# Altium footprint library HPD_D_1.0.PcbLib: 33 footprints (part 1 of 3)
Each footprint in its own frame and in the unit in brackets; x right, y up, seen from the top. Pads: shape width x height; smd on the part's side, far side on the other; paste and mask are expansions set on the pad; w line width, h text height; cw(c..) or ccw(c..) is an arc to the next point about the centre after c.
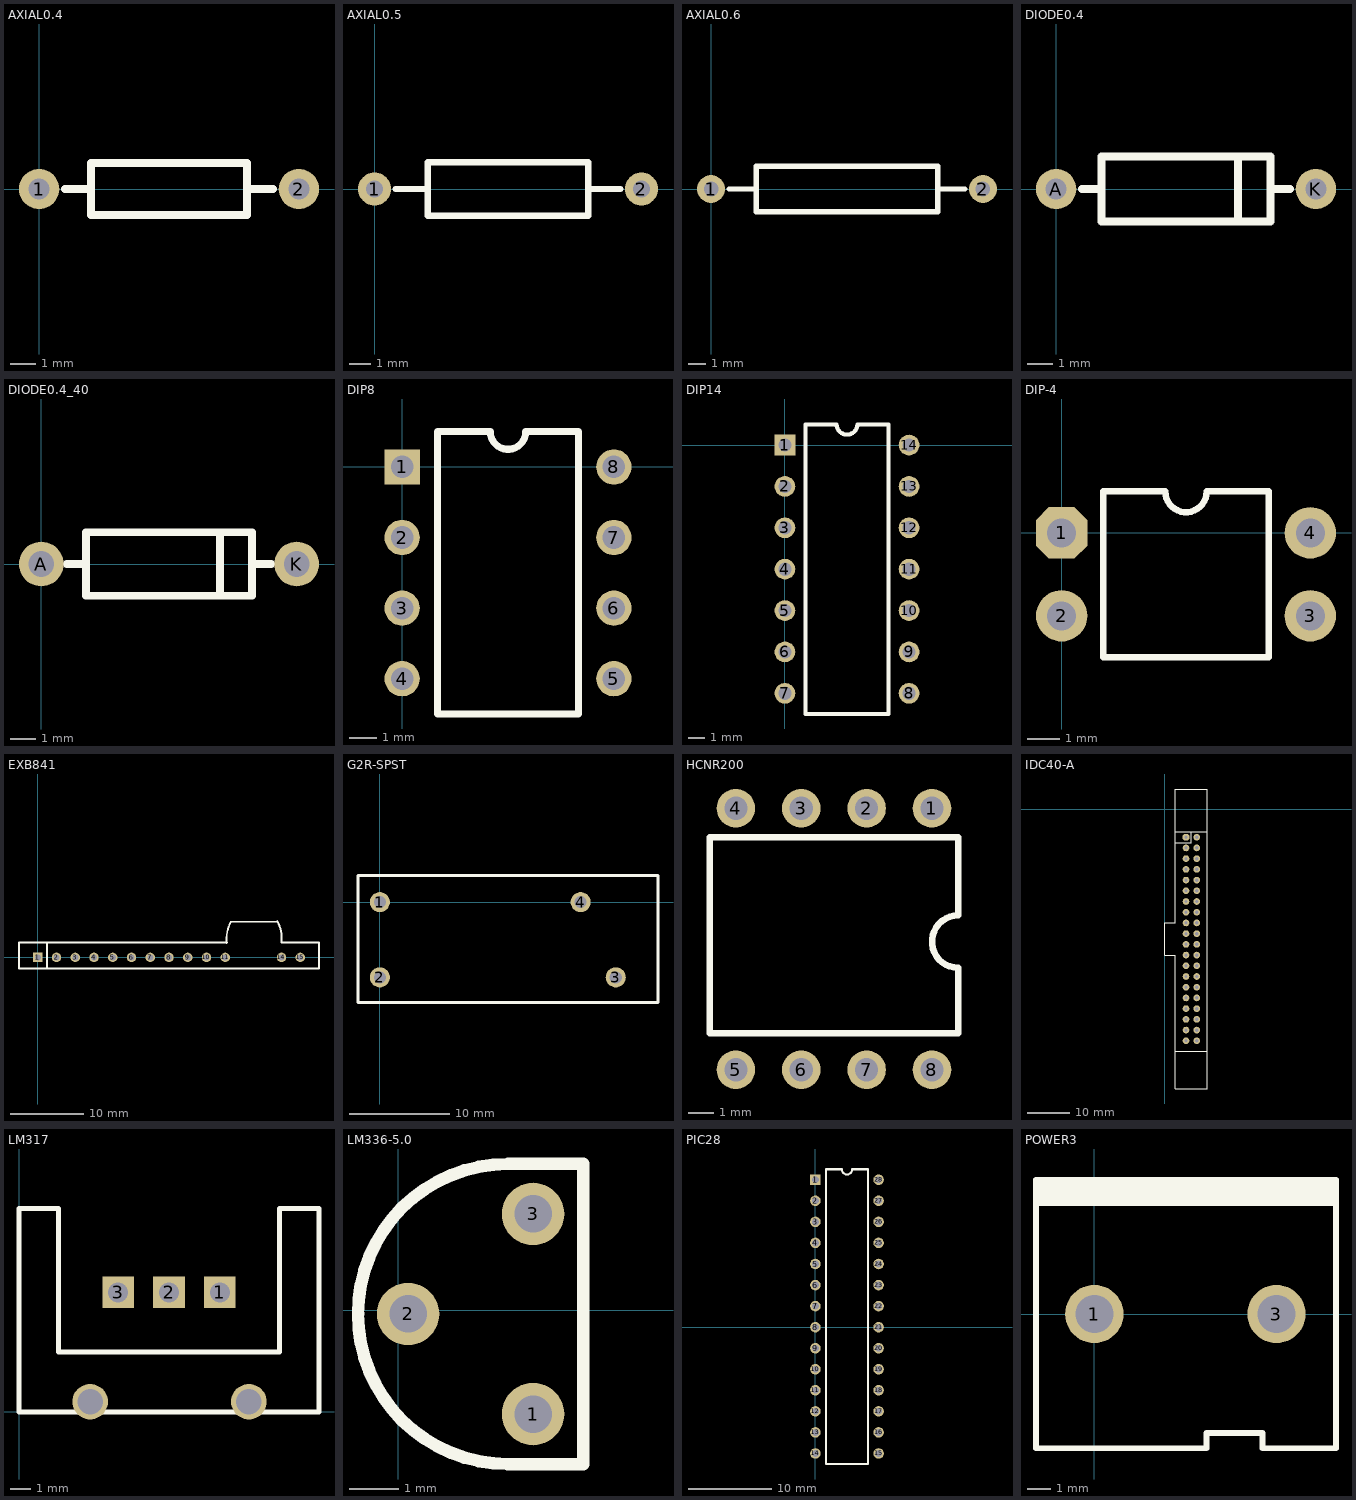
[diagram p0: the footprints below, top view; thin cyan lines are the x and y axes]

## AXIAL0.4 [mil]
pads (2):
  round 62 hole 32: 1(0,0) 2(400,0)
Top Overlay:
  lines w12: 40,0 80,0 ; 320,0 360,0 ; 80,-40 320,-40 320,40 80,40 80,-40

## AXIAL0.5 [mil]
pads (2):
  round 62 hole 32: 1(0,0) 2(500,0)
Top Overlay:
  lines w12: 40,0 100,0 ; 400,0 460,0 ; 100,-50 100,50 400,50 400,-50 100,-50

## AXIAL0.6 [mil]
pads (2):
  round 62 hole 32: 1(0,0) 2(600,0)
Top Overlay:
  lines w12: 40,0 100,0 ; 500,0 560,0 ; 100,-50 100,50 500,50 500,-50 100,-50

## DIODE0.4 [mil]
pads (2):
  round 62 hole 32: A(0,0) K(400,0)
Top Overlay:
  lines w12: 40,0 70,0 ; 280,-50 280,50 ; 330,0 360,0 ; 70,-50 330,-50 330,50 70,50 70,-50

## DIODE0.4_40 [mil]
pads (2):
  round 70 hole 40: A(0,0) K(400,0)
Top Overlay:
  lines w12: 40,0 70,0 ; 280,-50 280,50 ; 330,0 360,0 ; 70,-50 330,-50 330,50 70,50 70,-50

## DIP8 [mil]
pads (8):
  rect 50x50 hole 32: 1(0,0)
  round 50 hole 32: 2(0,-100) 3(0,-200) 4(0,-300) 5(300,-300) 6(300,-200) 7(300,-100) 8(300,0)
Top Overlay:
  lines w10: 50,-350 50,50 125,50 ccw(c150,50) 175,50 250,50 250,-350 50,-350

## DIP14 [mil]
pads (14):
  rect 50x50 hole 32: 1(0,0)
  round 50 hole 32: 2(0,-100) 3(0,-200) 4(0,-300) 5(0,-400) 6(0,-500) 7(0,-600) 8(300,-600) 9(300,-500) 10(300,-400) 11(300,-300) 12(300,-200) 13(300,-100) 14(300,0)
Top Overlay:
  lines w10: 50,-650 50,50 125,50 ccw(c150,50) 175,50 250,50 250,-650 50,-650

## DIP-4 [mil]
pads (4):
  oct 62x62 hole 35: 1(0,0)
  round 62 hole 35: 2(0,-100) 3(300,-100) 4(300,0)
Top Overlay:
  lines w7.87: 50,-150 50,50 125,50 ccw(c150,50) 175,50 250,50 250,-150 50,-150

## EXB841 [mil]
pads (13):
  rect 50x50 hole 32: 1(0,0)
  round 50 hole 32: 2(100,0) 3(200,0) 4(300,0) 5(400,0) 6(500,0) 7(600,0) 8(700,0) 9(800,0) 10(900,0) 11(1000,0) 14(1300,0) 15(1400,0)
Top Overlay:
  lines w10: 50,-60 50,80 ; 1007.64,75.95 cw(c1207.64,95.96) 1030,190 1280,190 ; 1010,80 -100,80 -100,-60 1500,-60 1500,80 1300,80 ccw(c1100,100) 1277.35,194.59

## G2R-SPST [mm]
pads (4):
  round 2 hole 1.2: 1(0,0) 2(0,-7.5) 3(23.5,-7.5) 4(20,0)
Top Overlay:
  lines w0.305: -2.181,-10.002 -2.181,2.649 27.708,2.649 27.708,-10.002 -2.181,-10.002

## HCNR200 [mm]
pads (8):
  round 1.5 hole 0.9: 1(10.668,11.786) 2(8.128,11.786) 3(5.588,11.786) 4(3.048,11.786) 5(3.048,1.626) 6(5.588,1.626) 7(8.128,1.626) 8(10.668,1.626)
Top Overlay:
  lines w0.254: 2.032,3.048 2.032,10.668 11.684,10.668 11.684,7.62 ccw(c11.684,6.604) 11.684,5.588 11.684,3.048 2.032,3.048

## IDC40-A [mil]
pads (40):
  oct 62x62 hole 32: 1(200,-260)
  round 62 hole 32: 2(300,-260) 3(200,-360) 4(300,-360) 5(200,-460) 6(300,-460) 7(200,-560) 8(300,-560) 9(200,-660) 10(300,-660) 11(200,-760) 12(300,-760) 13(200,-860) 14(300,-860) 15(200,-960) 16(300,-960) 17(200,-1060) 18(300,-1060) 19(200,-1160) 20(300,-1160) 21(200,-1260) 22(300,-1260) 23(200,-1360) 24(300,-1360) 25(200,-1460) 26(300,-1460) 27(200,-1560) 28(300,-1560) 29(200,-1660) 30(300,-1660) 31(200,-1760) 32(300,-1760) 33(200,-1860) 34(300,-1860) 35(200,-1960) 36(300,-1960) 37(200,-2060) 38(300,-2060) 39(200,-2160) 40(300,-2160)
Top Overlay:
  lines w10: 100,-2260 400,-2260 ; 100,-310 250,-310 250,-210 ; 100,-210 400,-210 ; 0,-1360 100,-1360 100,-2610 400,-2610 400,190 100,190 100,-1060 0,-1060 0,-1360

## LM317 [mil]
pads (5):
  rect 62x62 hole 39.37: 1(395,235) 2(295,235) 3(195,235)
  round 70 hole 50: ""(140,20) ""(452,20)
Top Overlay:
  lines w10: 0,0 590,0 590,400 512,400 512,118 78,118 78,400 0,400 0,0

## LM336-5.0 [mil]
pads (3):
  round 50 hole 30: 1(107.87,-82.99) 2(7.87,-2.99) 3(107.87,77.01)
Top Overlay:
  lines w10: 87.87,-122.99 cw(c87.87,-2.99) 87.87,117.01 147.87,117.01 147.87,-122.99 87.87,-122.99

## PIC28 [mil]
pads (28):
  rect 50x50 hole 32: 1(0,700)
  round 50 hole 32: 2(0,600) 3(0,500) 4(0,400) 5(0,300) 6(0,200) 7(0,100) 8(0,0) 9(0,-100) 10(0,-200) 11(0,-300) 12(0,-400) 13(0,-500) 14(0,-600) 15(300,-600) 16(300,-500) 17(300,-400) 18(300,-300) 19(300,-200) 20(300,-100) 21(300,0) 22(300,100) 23(300,200) 24(300,300) 25(300,400) 26(300,500) 27(300,600) 28(300,700)
Top Overlay:
  lines w10: 50,-50 50,750 125,750 ccw(c150,750) 175,750 250,750 250,-50 ; 50,150 50,-650 250,-650 250,150

## POWER3 [mil]
pads (2):
  round 100 hole 65: 1(0,0) 3(312,0)
Top Overlay:
  rectangle: -100,190 412,230
  lines w10: -100,190 414,190 ; -100,-230 -100,230 414,230 414,-230 288,-230 288,-204 192,-204 192,-230 -100,-230